# EAGLE library part 54819-0519 (library 54819-0519)
USB - mini B USB 2.0 OTG Receptacle Connector 5 Position Through Hole, Right Angle Check availability <https://pricing.snapeda.com/parts/54819-0519/Molex/view-part?ref=eda>
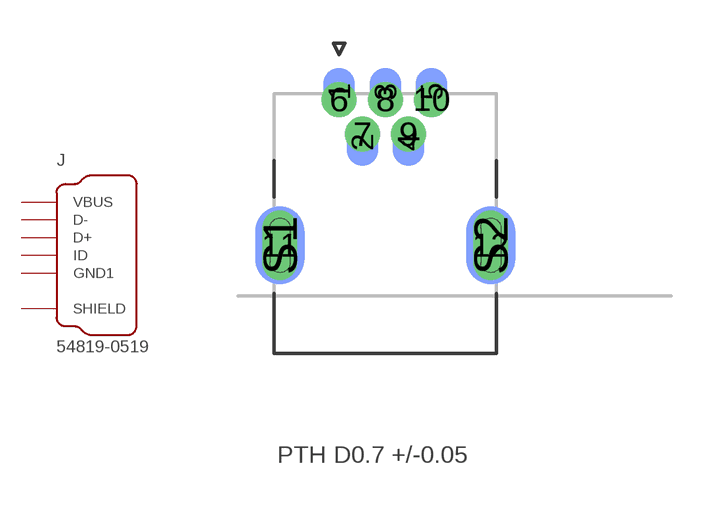
[diagram p0: symbol with the pads of MOLEX_54819-0519; footprint MOLEX_54819-0519]

Designator prefix J

## 54819-0519 (AVAILABILITY: In Stock; DESCRIPTION: USB - mini B USB 2.0 OTG Receptacle Connector 5 Position Through Hole, Right Angle; MF: Molex; MP: 54819-0519; PACKAGE: None; PRICE: None; PURCHASE-URL: https://pricing.snapeda.com/search/part/54819-0519/?ref=eda)  [MOLEX_54819-0519]
1  VBUS  pwr
2  D-
3  D+
4  ID
5  GND1  pwr
6  VBUS  pwr
7  D-
8  D+
9  ID
10  GND1  pwr
11  SHIELD  pas
12  SHIELD  pas
S1  SHIELD  pas
S2  SHIELD  pas

## Footprint MOLEX_54819-0519 (pad centres in mm)
smd 1.1 x 1.65 bottom: 1 0,0.275; 2 0.8,-1.475; 3 1.6,0.275; 4 2.4,-1.475; 5 3.2,0.275
drill 0.7 pad 1.05: 6 0,0; 7 0.8,-1.2; 8 1.6,0; 9 2.4,-1.2; 10 3.2,0
drill 0.7 pad 1.123 long: 11 -2.05,-5.05; 12 5.25,-5.05
smd 1.7 x 2.7 bottom: S1 -2.05,-5.05; S2 5.25,-5.05